# EAGLE library part SSW-136-02-S-S (library con-samtec)
THROUGH-HOLE .025" SQ POST SOCKET Source: Samtec SSW.pdf
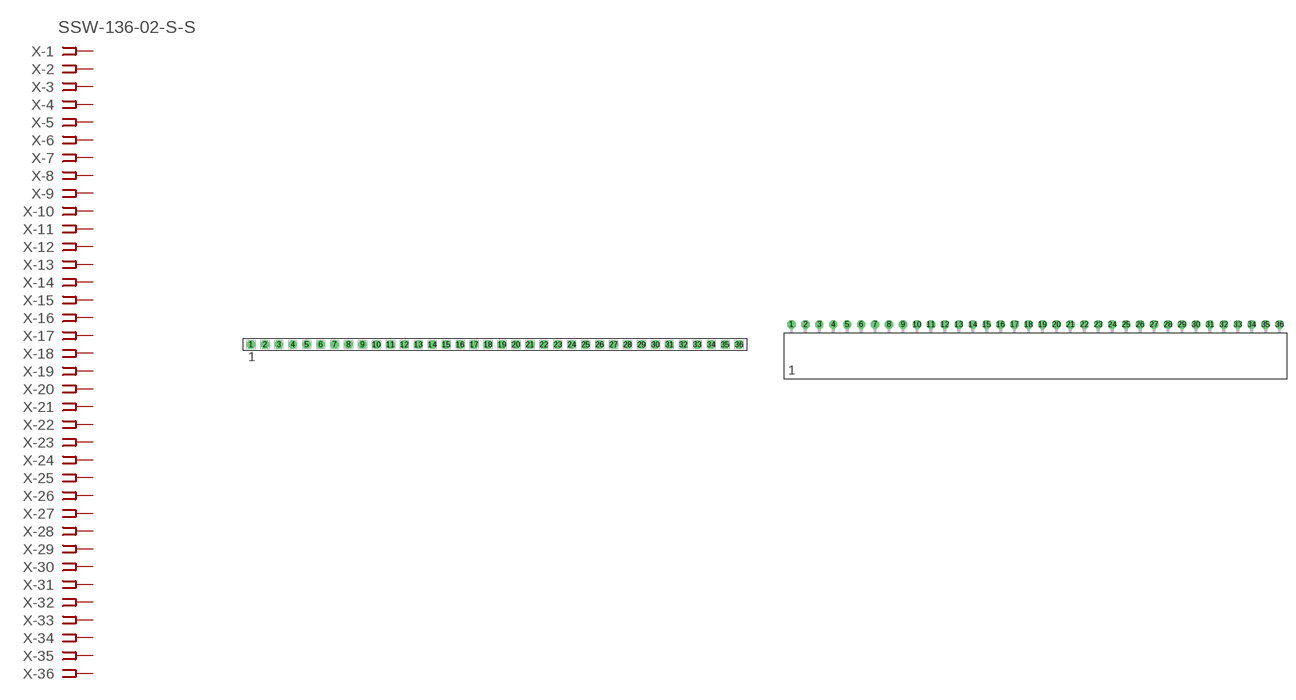
[diagram p68: symbol with the pads of SSW-136-02-S-S; footprints SSW-136-02-S-S, SSW-136-02-S-S-RA]

Designator prefix X; gates -1=FPINV -2=FPIN -3=FPIN -4=FPIN -5=FPIN -6=FPIN -7=FPIN -8=FPIN -9=FPIN -10=FPIN -11=FPIN -12=FPIN -13=FPIN -14=FPIN -15=FPIN -16=FPIN -17=FPIN -18=FPIN -19=FPIN -20=FPIN -21=FPIN -22=FPIN -23=FPIN -24=FPIN -25=FPIN -26=FPIN -27=FPIN -28=FPIN -29=FPIN -30=FPIN -31=FPIN -32=FPIN -33=FPIN -34=FPIN -35=FPIN -36=FPIN

## SSW-136-02-S-S  [SSW-136-02-S-S]
1  -1:1  pas
2  -2:1  pas
3  -3:1  pas
4  -4:1  pas
5  -5:1  pas
6  -6:1  pas
7  -7:1  pas
8  -8:1  pas
9  -9:1  pas
10  -10:1  pas
11  -11:1  pas
12  -12:1  pas
13  -13:1  pas
14  -14:1  pas
15  -15:1  pas
16  -16:1  pas
17  -17:1  pas
18  -18:1  pas
19  -19:1  pas
20  -20:1  pas
21  -21:1  pas
22  -22:1  pas
23  -23:1  pas
24  -24:1  pas
25  -25:1  pas
26  -26:1  pas
27  -27:1  pas
28  -28:1  pas
29  -29:1  pas
30  -30:1  pas
31  -31:1  pas
32  -32:1  pas
33  -33:1  pas
34  -34:1  pas
35  -35:1  pas
36  -36:1  pas

## SSW-136-02-S-S-RA  [SSW-136-02-S-S-RA]
Pads as for SSW-136-02-S-S

## Footprint SSW-136-02-S-S (pad centres in mm)
THROUGH-HOLE .025" SQ POST SOCKET Source: Samtec SSW.pdf
drill 1 pad 1.5 octagon: 1 -44.45,0; 2 -41.91,0; 3 -39.37,0; 4 -36.83,0; 5 -34.29,0; 6 -31.75,0; 7 -29.21,0; 8 -26.67,0; 9 -24.13,0; 10 -21.59,0; 11 -19.05,0; 12 -16.51,0; 13 -13.97,0; 14 -11.43,0; 15 -8.89,0; 16 -6.35,0; 17 -3.81,0; 18 -1.27,0; 19 1.27,0; 20 3.81,0; 21 6.35,0; 22 8.89,0; 23 11.43,0; 24 13.97,0; 25 16.51,0; 26 19.05,0; 27 21.59,0; 28 24.13,0; 29 26.67,0; 30 29.21,0; 31 31.75,0; 32 34.29,0; 33 36.83,0; 34 39.37,0; 35 41.91,0; 36 44.45,0

## Footprint SSW-136-02-S-S-RA (pad centres in mm)
THROUGH-HOLE .025" SQ POST SOCKET Source: Samtec SSW.pdf
drill 1 pad 1.5 octagon: 1 -44.45,1.524; 2 -41.91,1.524; 3 -39.37,1.524; 4 -36.83,1.524; 5 -34.29,1.524; 6 -31.75,1.524; 7 -29.21,1.524; 8 -26.67,1.524; 9 -24.13,1.524; 10 -21.59,1.524; 11 -19.05,1.524; 12 -16.51,1.524; 13 -13.97,1.524; 14 -11.43,1.524; 15 -8.89,1.524; 16 -6.35,1.524; 17 -3.81,1.524; 18 -1.27,1.524; 19 1.27,1.524; 20 3.81,1.524; 21 6.35,1.524; 22 8.89,1.524; 23 11.43,1.524; 24 13.97,1.524; 25 16.51,1.524; 26 19.05,1.524; 27 21.59,1.524; 28 24.13,1.524; 29 26.67,1.524; 30 29.21,1.524; 31 31.75,1.524; 32 34.29,1.524; 33 36.83,1.524; 34 39.37,1.524; 35 41.91,1.524; 36 44.45,1.524